# Altium footprint library shelby_temp.PcbLib: 1 footprints
Each footprint in its own frame and in the unit in brackets; x right, y up, seen from the top. Pads: shape width x height; smd on the part's side, far side on the other; paste and mask are expansions set on the pad; w line width, h text height; cw(c..) or ccw(c..) is an arc to the next point about the centre after c.
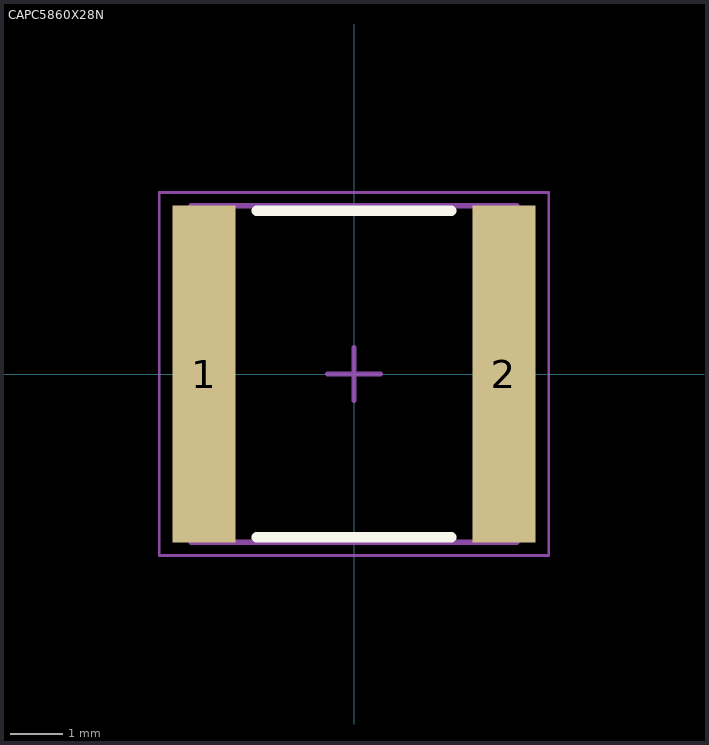
[diagram p0: the footprint, top view; thin cyan lines are the x and y axes]

## CAPC5860X28N [mm] "Chip Capacitor, 2-Leads, Body 5.75x6.00mm, IPC Medium Density"
height 2.8
pads (2):
  rect 1.2x6.4 smd: 1(-2.85,0) 2(2.85,0)
Top Overlay:
  lines w0.2: -1.85,-3.1 1.85,-3.1 ; -1.85,3.1 1.85,3.1
Mechanical 13:
  lines w0.1: -3.1,-3.2 3.1,-3.2 3.1,3.2 -3.1,3.2 -3.1,-3.2
Mechanical 15:
  lines w0.05: -3.7,-3.45 3.7,-3.45 3.7,3.45 -3.7,3.45 -3.7,-3.45
  lines w0.1: -0.5,0 0.5,0 ; 0,-0.5 0,0.5
3D body "CAPC5860X28N.step": height 2.8, standoff 0, extent -3.1,-3.2 3.1,3.2